# Altium footprint library CHIP.PcbLib: 43 footprints (part 3 of 3)
Each footprint in its own frame and in the unit in brackets; x right, y up, seen from the top. Pads: shape width x height; smd on the part's side, far side on the other; paste and mask are expansions set on the pad; w line width, h text height; cw(c..) or ccw(c..) is an arc to the next point about the centre after c.
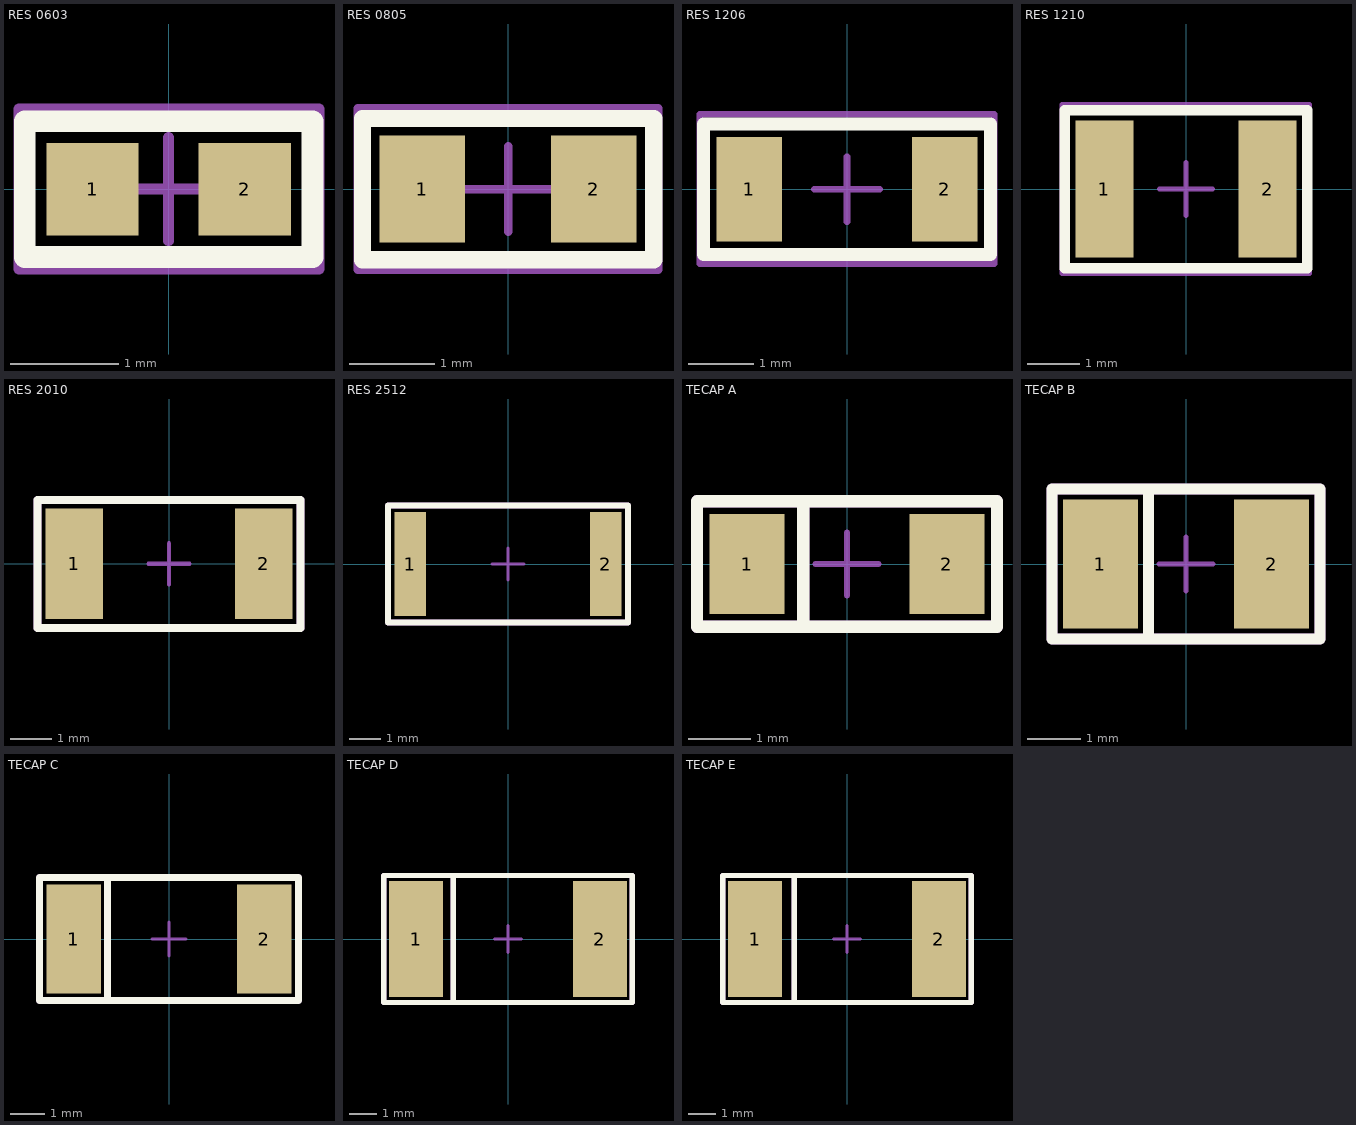
[diagram p2: the footprints below, top view; thin cyan lines are the x and y axes]

## RES 0603 [mm]
height 0.45
pads (2):
  rect 0.85x0.85 smd: 1(-0.7,0) 2(0.7,0)
Top Overlay:
  lines w0.2: -1.325,-0.625 -1.325,0.625 1.325,0.625 1.325,-0.625 -1.325,-0.625
Top Assembly:
  lines w0.1: -0.475,0 0.475,0 ; 0,-0.475 0,0.475 ; -1.378,-0.736 -1.378,0.738 1.385,0.738 1.385,-0.736 -1.378,-0.736
Top Courtyard (Mech15):
  lines w0.1: -1.378,-0.736 1.385,-0.736 1.385,0.738 -1.378,0.738 -1.378,-0.736
3D body "chip_0603_r.STEP": height 0.44, standoff -0.02, extent -0.8,-0.4 0.8,0.4

## RES 0805 [mm]
height 0.45
pads (2):
  rect 1x1.25 smd: 1(-1,0) 2(1,0)
Top Overlay:
  lines w0.2: -1.7,-0.825 1.7,-0.825 1.7,0.825 -1.7,0.825 -1.7,-0.825
Top Assembly:
  lines w0.1: -0.5,0 0.5,0 ; 0,-0.5 0,0.5 ; -1.751,-0.94 -1.751,0.942 1.75,0.942 1.75,-0.94 -1.751,-0.94
Top Courtyard (Mech15):
  lines w0.1: -1.751,-0.94 -1.751,0.942 1.75,0.942 1.75,-0.94 -1.751,-0.94
3D body "chip_0805_r.STEP": height 0.44, standoff -0.02, extent -1,-0.6 1,0.6

## RES 1206 [mm]
height 0.6
pads (2):
  rect 1x1.6 smd: 1(-1.5,0) 2(1.5,0)
Top Overlay:
  lines w0.2: -2.2,-1 -2.2,1 2.2,1 2.2,-1 -2.2,-1
Top Assembly:
  lines w0.1: -0.5,0 0.5,0 ; 0,-0.5 0,0.5 ; -2.261,-1.14 -2.261,1.147 2.26,1.147 2.26,-1.14 -2.261,-1.14
Top Courtyard (Mech15):
  lines w0.1: -2.261,-1.14 -2.261,1.147 2.26,1.147 2.26,-1.14 -2.261,-1.14
3D body "chip_1206_r.STEP": height 0.47, standoff -0.03, extent -1.65,-0.8 1.55,0.8

## RES 1210 [mm]
pads (2):
  rect 1.1x2.6 smd: 1(-1.55,0) 2(1.55,0)
Top Overlay:
  lines w0.2: -2.3,-1.5 2.3,-1.5 2.3,1.5 -2.3,1.5 -2.3,-1.5
Top Assembly:
  lines w0.1: -0.5,0 0.5,0 ; 0,-0.5 0,0.5 ; -2.354,-1.598 2.344,-1.598 2.344,1.601 -2.354,1.601 -2.354,-1.598
Top Courtyard (Mech15):
  lines w0.1: -2.354,-1.598 2.344,-1.598 2.344,1.601 -2.354,1.601 -2.354,-1.598
3D body "User Library-R_1210.STEP": height 0.6, standoff 0, extent -1.6,-1.25 1.6,1.25

## RES 2010 [mm]
height 0.55
pads (2):
  rect 1.4x2.7 smd: 1(-2.3,0) 2(2.3,0)
Top Overlay:
  lines w0.2: -3.2,-1.561 -3.2,1.55 3.2,1.55 3.2,-1.561 -3.2,-1.561
Top Assembly:
  lines w0.1: -0.5,0 0.5,0 ; 0,-0.5 0,0.5
  lines w0.2: -3.2,-1.561 -3.2,1.55 3.2,1.55 3.2,-1.561 -3.2,-1.561
Top Courtyard (Mech15):
  lines w0.2: -3.2,-1.561 3.2,-1.561 3.2,1.55 -3.2,1.55 -3.2,-1.561
3D body "User Library-R_2010.STEP": height 0.6, standoff 0, extent -2.5,-1.25 2.5,1.25

## RES 2512 [mm]
height 0.55
pads (2):
  rect 1x3.3 smd: 1(-3.1,0) 2(3.1,0)
Top Overlay:
  lines w0.2: -3.8,-1.85 3.8,-1.85 3.8,1.85 -3.8,1.85 -3.8,-1.85
Top Assembly:
  lines w0.1: -0.5,0 0.5,0 ; 0,-0.5 0,0.5
  lines w0.2: -3.8,-1.85 3.8,-1.85 3.8,1.85 -3.8,1.85 -3.8,-1.85
Top Courtyard (Mech15):
  lines w0.2: -3.8,-1.85 -3.8,1.85 3.8,1.85 3.8,-1.85 -3.8,-1.85
3D body "chip_2512_r.STEP": height 0.52, standoff -0.04, extent -3.175,-1.6 3.175,1.6

## TECAP A [mm]
height 1.6
pads (2):
  rect 1.2x1.6 smd: 1(-1.6,0) 2(1.6,0)
Top Overlay:
  lines w0.2: -0.7,-1 -0.7,1 ; -2.4,-1 -2.4,1 2.4,1 2.4,-1 -2.4,-1
Top Assembly:
  lines w0.1: -0.5,0 0.5,0 ; 0,-0.5 0,0.5
  lines w0.2: -0.7,-1 -0.7,1 ; -2.4,-1 -2.4,1 2.4,1 2.4,-1 -2.4,-1
Top Courtyard (Mech15):
  lines w0.2: -0.7,-1 -0.7,1 ; -2.4,-1 -2.4,1 2.4,1 2.4,-1 -2.4,-1
3D body "User Library-AVX_ACASE.STEP": height 1.71, standoff 0, extent -1.7,-0.84 1.7,0.84

## TECAP B [mm]
height 1.9
pads (2):
  rect 1.4x2.4 smd: 1(-1.6,0) 2(1.6,0)
Top Overlay:
  lines w0.2: -0.7,-1.4 -0.7,1.3 ; -2.5,-1.4 -2.5,1.4 2.5,1.4 2.5,-1.4 -2.5,-1.4
Top Assembly:
  lines w0.1: -0.5,0 0.5,0 ; 0,-0.5 0,0.5
  lines w0.2: -0.7,-1.4 -0.7,1.3 ; -2.5,-1.4 2.5,-1.4 2.5,1.4 -2.5,1.4 -2.5,-1.4
Top Courtyard (Mech15):
  lines w0.2: -2.5,-1.4 2.5,-1.4 2.5,1.4 -2.5,1.4 -2.5,-1.4
3D body "User Library-AVX_BCASE.STEP": height 2.03, standoff 0, extent -1.85,-1.465 1.85,1.465

## TECAP C [mm]
height 2.5
pads (2):
  rect 1.6x3.2 smd: 1(-2.8,0) 2(2.8,0)
Top Overlay:
  lines w0.2: -1.8,-1.8 -1.8,1.8 ; -3.8,-1.8 3.8,-1.8 3.8,1.8 -3.8,1.8 -3.8,-1.8
Top Assembly:
  lines w0.1: -0.5,0 0.5,0 ; 0,-0.5 0,0.5
  lines w0.2: -1.8,-1.8 -1.8,1.8 ; -3.8,-1.8 3.8,-1.8 3.8,1.8 -3.8,1.8 -3.8,-1.8
Top Courtyard (Mech15):
  lines w0.2: -3.8,-1.8 3.8,-1.8 3.8,1.8 -3.8,1.8 -3.8,-1.8
3D body "User Library-AVX_C_CASE.STEP": height 2.7, standoff 0, extent -3.05,-1.675 3.05,1.675

## TECAP D [mm]
height 2.9
pads (2):
  rect 2x4.3 smd: 1(-3.4,0) 2(3.4,0)
Top Overlay:
  lines w0.2: -2.025,-2.35 -2.025,2.35 ; -4.6,-2.35 4.6,-2.35 4.6,2.35 -4.6,2.35 -4.6,-2.35
Top Assembly:
  lines w0.1: -0.5,0 0.5,0 ; 0,-0.5 0,0.5
  lines w0.2: -2.025,-2.35 -2.025,2.35 ; -4.6,-2.35 -4.6,2.35 4.6,2.35 4.6,-2.35 -4.6,-2.35
Top Courtyard (Mech15):
  lines w0.2: -4.6,-2.35 4.6,-2.35 4.6,2.35 -4.6,2.35 -4.6,-2.35
3D body "User Library-AVX_D_CASE.STEP": height 3.01, standoff 0, extent -3.7,-2.225 3.7,2.225

## TECAP E [mm]
height 2.9
pads (2):
  rect 2x4.3 smd: 1(-3.4,0) 2(3.4,0)
Top Overlay:
  lines w0.2: -1.95,-2.325 -1.95,2.325 ; -4.6,-2.35 -4.6,2.35 4.6,2.35 4.6,-2.35 -4.6,-2.35
Top Assembly:
  lines w0.1: -0.5,0 0.5,0 ; 0,-0.5 0,0.5
  lines w0.2: -1.95,-2.325 -1.95,2.325 ; -4.6,-2.35 -4.6,2.35 4.6,2.35 4.6,-2.35 -4.6,-2.35
Top Courtyard (Mech15):
  lines w0.2: -4.6,-2.35 -4.6,2.35 4.6,2.35 4.6,-2.35 -4.6,-2.35
3D body "User Library-AVX_E_CASE.STEP": height 4.2, standoff 0, extent -3.7,-2.225 3.7,2.225